# Altium integrated library amphenol.IntLib: 2 symbols
Pins are listed as number, name and electrical type; pins without a type are passive.

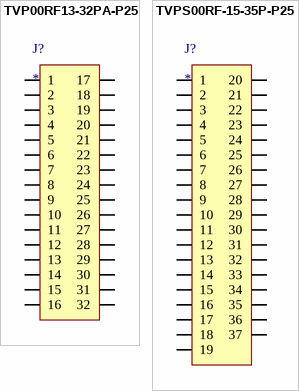
[diagram p0: symbols TVP00RF13-32PA-P25 to TVPS00RF-15-35P-P25]

## TVP00RF13-32PA-P25
designator J?
footprint MIL-STD-1560B 13-32 (Insert arrangement for MIL-STD-1560B 15-97)
pins: 1, 2, 3, 4, 5, 6, 7, 8, 9, 10, 11, 12, 13, 14, 15, 16, 17, 18, 19, 20, 21, 22, 23, 24, 25, 26, 27, 28, 29, 30, 31, 32

## TVPS00RF-15-35P-P25
designator J?
footprint MIL-STD-1560B 13-35 (Insert arrangement for MIL-STD-1560B 15-35)
pins: 1, 2, 3, 4, 5, 6, 7, 8, 9, 10, 11, 12, 13, 14, 15, 16, 17, 18, 19, 20, 21, 22, 23, 24, 25, 26, 27, 28, 29, 30, 31, 32, 32 33, 32 34, 32 35, 32 36, 32 37